# Altium schematic symbol library BAV70.SchLib: 1 symbol
Pins are listed as number, name and electrical type; pins without a type are passive.

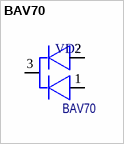
[diagram p0: symbol BAV70]

## BAV70
designator VD?
High-speed switching diodes; Назначение: Диодная сборка; ComponentLink1Description: DataSheet; ComponentLink1URL: https://static.chipdip.ru/lib/635/DOC005635893.pdf; Наименование: BAV70
footprint SOT-23
pins: 1 5, 2 4, 3 6